# EAGLE library part MM74HC14MTCX (library Fairchild_By_element14_Batch_1)
Hex Inverting Schmitt Trigger
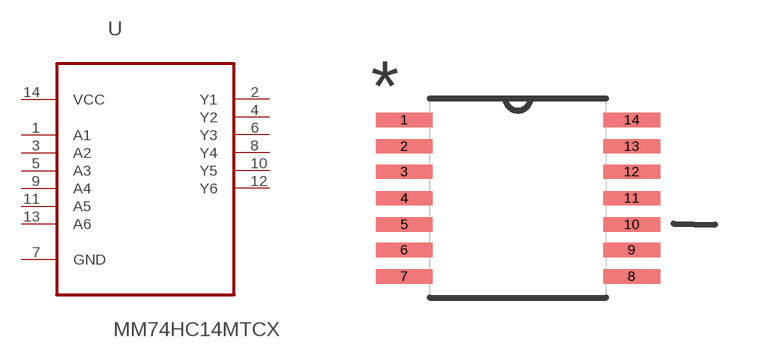
[diagram p249: symbol with the pads of SOP65P640X120-14N; footprint SOP65P640X120-14N]

Designator prefix U

## MM74HC14MTCX (MPN: MM74HC14MTCX; OC_FARNELL: 1467331; OC_NEWARK: 58K1944; PACKAGE: TSSOP-14; SUPPLIER: FAIRCHILD)  [SOP65P640X120-14N]
1  A1  in
2  Y1  out
3  A2  in
4  Y2  out
5  A3  in
6  Y3  out
7  GND  pas
8  Y4  out
9  A4  in
10  Y5  out
11  A5  in
12  Y6  out
13  A6  in
14  VCC  pwr

## Footprint SOP65P640X120-14N (pad centres in mm)
smd 1.422 x 0.356: 1 -2.845,1.956; 2 -2.845,1.295; 3 -2.845,0.66; 4 -2.845,0; 5 -2.845,-0.66; 6 -2.845,-1.295; 7 -2.845,-1.956; 8 2.845,-1.956; 9 2.845,-1.295; 10 2.845,-0.66; 11 2.845,0; 12 2.845,0.66; 13 2.845,1.295; 14 2.845,1.956